# Altium footprint library 2551.PcbLib: 3 footprints
Each footprint in its own frame and in the unit in brackets; x right, y up, seen from the top. Pads: shape width x height; smd on the part's side, far side on the other; paste and mask are expansions set on the pad; w line width, h text height; cw(c..) or ccw(c..) is an arc to the next point about the centre after c.
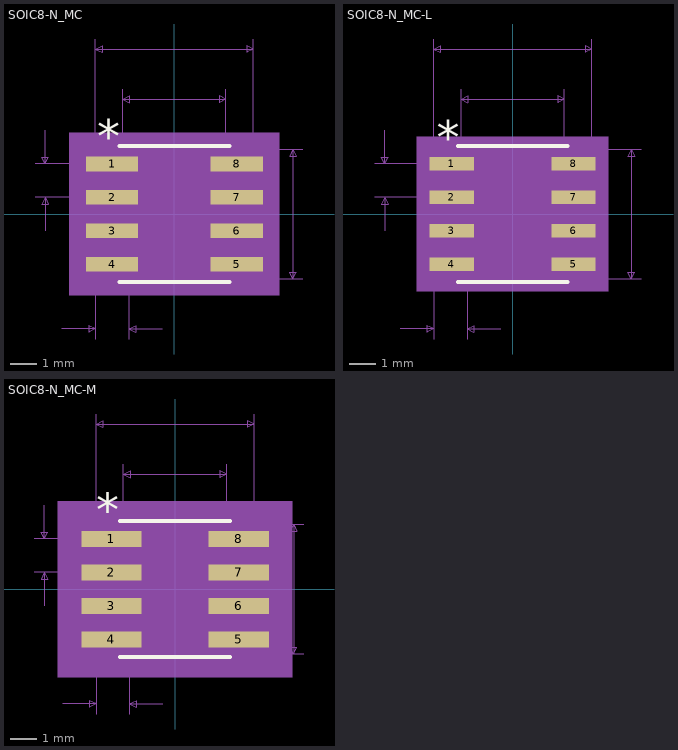
[diagram p0: the footprints below, top view; thin cyan lines are the x and y axes]

## SOIC8-N_MC [mil]
pads (8):
  rect 78x22 smd: 1(-93,75) 2(-93,25) 3(-93,-25) 4(-93,-75) 5(93,-75) 6(93,-25) 7(93,25) 8(93,75)
Top Overlay:
  lines w6: -82,-101.5 82,-101.5 ; -82,101.5 82,101.5
  text "*" at -115.5,92 h50
Mechanical 5:
  region: 157,-121.5 -157,-121.5 -157,121.5 157,121.5
Mechanical 7:
  lines w1: -208,25 -93,25 ; -208,75 -93,75 ; -193,-25 -193,25 ; -193,125 -193,75 ; -168,-171.5 -118,-171.5 ; -118,-186.5 -118,0 -118,261.5 ; -77,0 -77,186.5 ; -68,-186.5 -68,0 ; -18,-171.5 -68,-171.5 ; 0,-96.5 192,-96.5 ; 0,96.5 192,96.5 ; 77,0 77,186.5 ; 118,0 118,261.5 ; -193,25 -198,15 -188,15 -193,25 ; -193,75 -198,85 -188,85 -193,75 ; -118,-171.5 -128,-166.5 -128,-176.5 -118,-171.5 ; -118,246.5 118,246.5 ; -118,246.5 -108,251.5 -108,241.5 -118,246.5 ; -77,171.5 77,171.5 ; -77,171.5 -67,176.5 -67,166.5 -77,171.5 ; -68,-171.5 -58,-166.5 -58,-176.5 -68,-171.5 ; 77,171.5 67,176.5 67,166.5 77,171.5 ; 118,246.5 108,251.5 108,241.5 118,246.5 ; 177,-96.5 177,96.5 ; 177,-96.5 172,-86.5 182,-86.5 177,-96.5 ; 177,96.5 172,86.5 182,86.5 177,96.5
  text "Default Padstyle: RX78Y22D0T" at -350,-296.5 h50
  text "Pin One Padstyle: RX78Y22D0T" at -350,-356.5 h50
  text "Alt 1 Padstyle: OX60Y90D30P" at -337.5,-536.5 h50
  text "Alt 2 Padstyle: OX90Y60D30P" at -337.5,-596.5 h50
  text "0.154in/3.912mm" at -93.75,191.5 h25
  text "0.236in/5.994mm" at -93.75,266.5 h25
  text "0.193in/4.902mm" at 197,-12.5 h25
  text "0.05in/1.27mm" at -375.5,37.5 h25
  text "0.05in/1.27mm" at -174.25,-216.5 h25
Mechanical 13:
  lines w0: -12,96.5 ccw(c0,96.5) 12,96.5
  lines w1: -118,-85 -118,-65 -77,-65 -77,-85 -118,-85 ; -118,-35 -118,-15 -77,-15 -77,-35 -118,-35 ; -118,15 -118,35 -77,35 -77,15 -118,15 ; -118,65 -118,85 -77,85 -77,65 -118,65 ; -77,-96.5 77,-96.5 77,96.5 -77,96.5 -77,-96.5 ; 77,-85 77,-65 118,-65 118,-85 77,-85 ; 77,-35 77,-15 118,-15 118,-35 77,-35 ; 77,15 77,35 118,35 118,15 77,15 ; 77,65 77,85 118,85 118,65 77,65
  text "*" at -74.5,43.5 h50
Mechanical 15:
  region: -87,-96 -142,-96 -142,96 -87,96 -87,106.5 87,106.5 87,96 142,96 142,-96 87,-96 87,-106.5 -87,-106.5
  lines w6: -142,-96 -142,96 -87,96 -87,106.5 87,106.5 87,96 142,96 142,-96 87,-96 87,-106.5 -87,-106.5 -87,-96 -142,-96
3D body: height 10, standoff 0, extent 0,0 10,10

## SOIC8-N_MC-L [mil]
pads (8):
  rect 66x20 smd paste+0 mask+0: 1(-91,75) 2(-91,25) 3(-91,-25) 4(-91,-75) 5(91,-75) 6(91,-25) 7(91,25) 8(91,75)
Top Overlay:
  lines w6: -82,-101.5 82,-101.5 ; -82,101.5 82,101.5
  text "*" at -113.5,90 h50
Mechanical 5:
  region: 143,-115.5 -143,-115.5 -143,115.5 143,115.5
Mechanical 7:
  lines w1: -206,25 -91,25 ; -206,75 -91,75 ; -191,-25 -191,25 ; -191,125 -191,75 ; -168,-171.5 -118,-171.5 ; -118,-186.5 -118,0 -118,261.5 ; -77,0 -77,186.5 ; -68,-186.5 -68,0 ; -18,-171.5 -68,-171.5 ; 0,-96.5 192,-96.5 ; 0,96.5 192,96.5 ; 77,0 77,186.5 ; 118,0 118,261.5 ; -191,25 -196,15 -186,15 -191,25 ; -191,75 -196,85 -186,85 -191,75 ; -118,-171.5 -128,-166.5 -128,-176.5 -118,-171.5 ; -118,246.5 118,246.5 ; -118,246.5 -108,251.5 -108,241.5 -118,246.5 ; -77,171.5 77,171.5 ; -77,171.5 -67,176.5 -67,166.5 -77,171.5 ; -68,-171.5 -58,-166.5 -58,-176.5 -68,-171.5 ; 77,171.5 67,176.5 67,166.5 77,171.5 ; 118,246.5 108,251.5 108,241.5 118,246.5 ; 177,-96.5 177,96.5 ; 177,-96.5 172,-86.5 182,-86.5 177,-96.5 ; 177,96.5 172,86.5 182,86.5 177,96.5
  text "Default Padstyle: RX66Y20D0T" at -350,-296.5 h50
  text "Pin One Padstyle: RX66Y20D0T" at -350,-356.5 h50
  text "Alt 1 Padstyle: OX60Y90D30P" at -337.5,-536.5 h50
  text "Alt 2 Padstyle: OX90Y60D30P" at -337.5,-596.5 h50
  text "0.154in/3.912mm" at -93.75,191.5 h25
  text "0.236in/5.994mm" at -93.75,266.5 h25
  text "0.193in/4.902mm" at 197,-12.5 h25
  text "0.05in/1.27mm" at -373.5,37.5 h25
  text "0.05in/1.27mm" at -174.25,-216.5 h25
Mechanical 13:
  lines w0: -12,96.5 ccw(c0,96.5) 12,96.5
  lines w1: -118,-85 -118,-65 -77,-65 -77,-85 -118,-85 ; -118,-35 -118,-15 -77,-15 -77,-35 -118,-35 ; -118,15 -118,35 -77,35 -77,15 -118,15 ; -118,65 -118,85 -77,85 -77,65 -118,65 ; -77,-96.5 77,-96.5 77,96.5 -77,96.5 -77,-96.5 ; 77,-85 77,-65 118,-65 118,-85 77,-85 ; 77,-35 77,-15 118,-15 118,-35 77,-35 ; 77,15 77,35 118,35 118,15 77,15 ; 77,65 77,85 118,85 118,65 77,65
  text "*" at -74.5,43.5 h50
Mechanical 15:
  region: -81,-89 -128,-89 -128,89 -81,89 -81,100.5 81,100.5 81,89 128,89 128,-89 81,-89 81,-100.5 -81,-100.5
  lines w6: -128,-89 -128,89 -81,89 -81,100.5 81,100.5 81,89 128,89 128,-89 81,-89 81,-100.5 -81,-100.5 -81,-89 -128,-89
3D body: height 10, standoff 0, extent 0,0 10,10

## SOIC8-N_MC-M [mil]
pads (8):
  rect 90x24 smd paste+0 mask+0: 1(-95,75) 2(-95,25) 3(-95,-25) 4(-95,-75) 5(95,-75) 6(95,-25) 7(95,25) 8(95,75)
Top Overlay:
  lines w6: -82,-101.5 82,-101.5 ; -82,101.5 82,101.5
  text "*" at -117.5,94 h50
Mechanical 5:
  region: 175,-131.5 -175,-131.5 -175,131.5 175,131.5
Mechanical 7:
  lines w1: -210,25 -95,25 ; -210,75 -95,75 ; -195,-25 -195,25 ; -195,125 -195,75 ; -168,-171.5 -118,-171.5 ; -118,-186.5 -118,0 -118,261.5 ; -77,0 -77,186.5 ; -68,-186.5 -68,0 ; -18,-171.5 -68,-171.5 ; 0,-96.5 192,-96.5 ; 0,96.5 192,96.5 ; 77,0 77,186.5 ; 118,0 118,261.5 ; -195,25 -200,15 -190,15 -195,25 ; -195,75 -200,85 -190,85 -195,75 ; -118,-171.5 -128,-166.5 -128,-176.5 -118,-171.5 ; -118,246.5 118,246.5 ; -118,246.5 -108,251.5 -108,241.5 -118,246.5 ; -77,171.5 77,171.5 ; -77,171.5 -67,176.5 -67,166.5 -77,171.5 ; -68,-171.5 -58,-166.5 -58,-176.5 -68,-171.5 ; 77,171.5 67,176.5 67,166.5 77,171.5 ; 118,246.5 108,251.5 108,241.5 118,246.5 ; 177,-96.5 177,96.5 ; 177,-96.5 172,-86.5 182,-86.5 177,-96.5 ; 177,96.5 172,86.5 182,86.5 177,96.5
  text "Default Padstyle: RX90Y24D0T" at -350,-296.5 h50
  text "Pin One Padstyle: RX90Y24D0T" at -350,-356.5 h50
  text "Alt 1 Padstyle: OX60Y90D30P" at -337.5,-536.5 h50
  text "Alt 2 Padstyle: OX90Y60D30P" at -337.5,-596.5 h50
  text "0.154in/3.912mm" at -93.75,191.5 h25
  text "0.236in/5.994mm" at -93.75,266.5 h25
  text "0.193in/4.902mm" at 197,-12.5 h25
  text "0.05in/1.27mm" at -377.5,37.5 h25
  text "0.05in/1.27mm" at -174.25,-216.5 h25
Mechanical 13:
  lines w0: -12,96.5 ccw(c0,96.5) 12,96.5
  lines w1: -118,-85 -118,-65 -77,-65 -77,-85 -118,-85 ; -118,-35 -118,-15 -77,-15 -77,-35 -118,-35 ; -118,15 -118,35 -77,35 -77,15 -118,15 ; -118,65 -118,85 -77,85 -77,65 -118,65 ; -77,-96.5 77,-96.5 77,96.5 -77,96.5 -77,-96.5 ; 77,-85 77,-65 118,-65 118,-85 77,-85 ; 77,-35 77,-15 118,-15 118,-35 77,-35 ; 77,15 77,35 118,35 118,15 77,15 ; 77,65 77,85 118,85 118,65 77,65
  text "*" at -74.5,43.5 h50
Mechanical 15:
  region: -97,-107 -160,-107 -160,107 -97,107 -97,116.5 97,116.5 97,107 160,107 160,-107 97,-107 97,-116.5 -97,-116.5
  lines w6: -160,-107 -160,107 -97,107 -97,116.5 97,116.5 97,107 160,107 160,-107 97,-107 97,-116.5 -97,-116.5 -97,-107 -160,-107
3D body: height 10, standoff 0, extent 0,0 10,10